# Altium footprint library ee_453_Schulz.PcbLib: 73 footprints (part 4 of 5)
Each footprint in its own frame and in the unit in brackets; x right, y up, seen from the top. Pads: shape width x height; smd on the part's side, far side on the other; paste and mask are expansions set on the pad; w line width, h text height; cw(c..) or ccw(c..) is an arc to the next point about the centre after c.
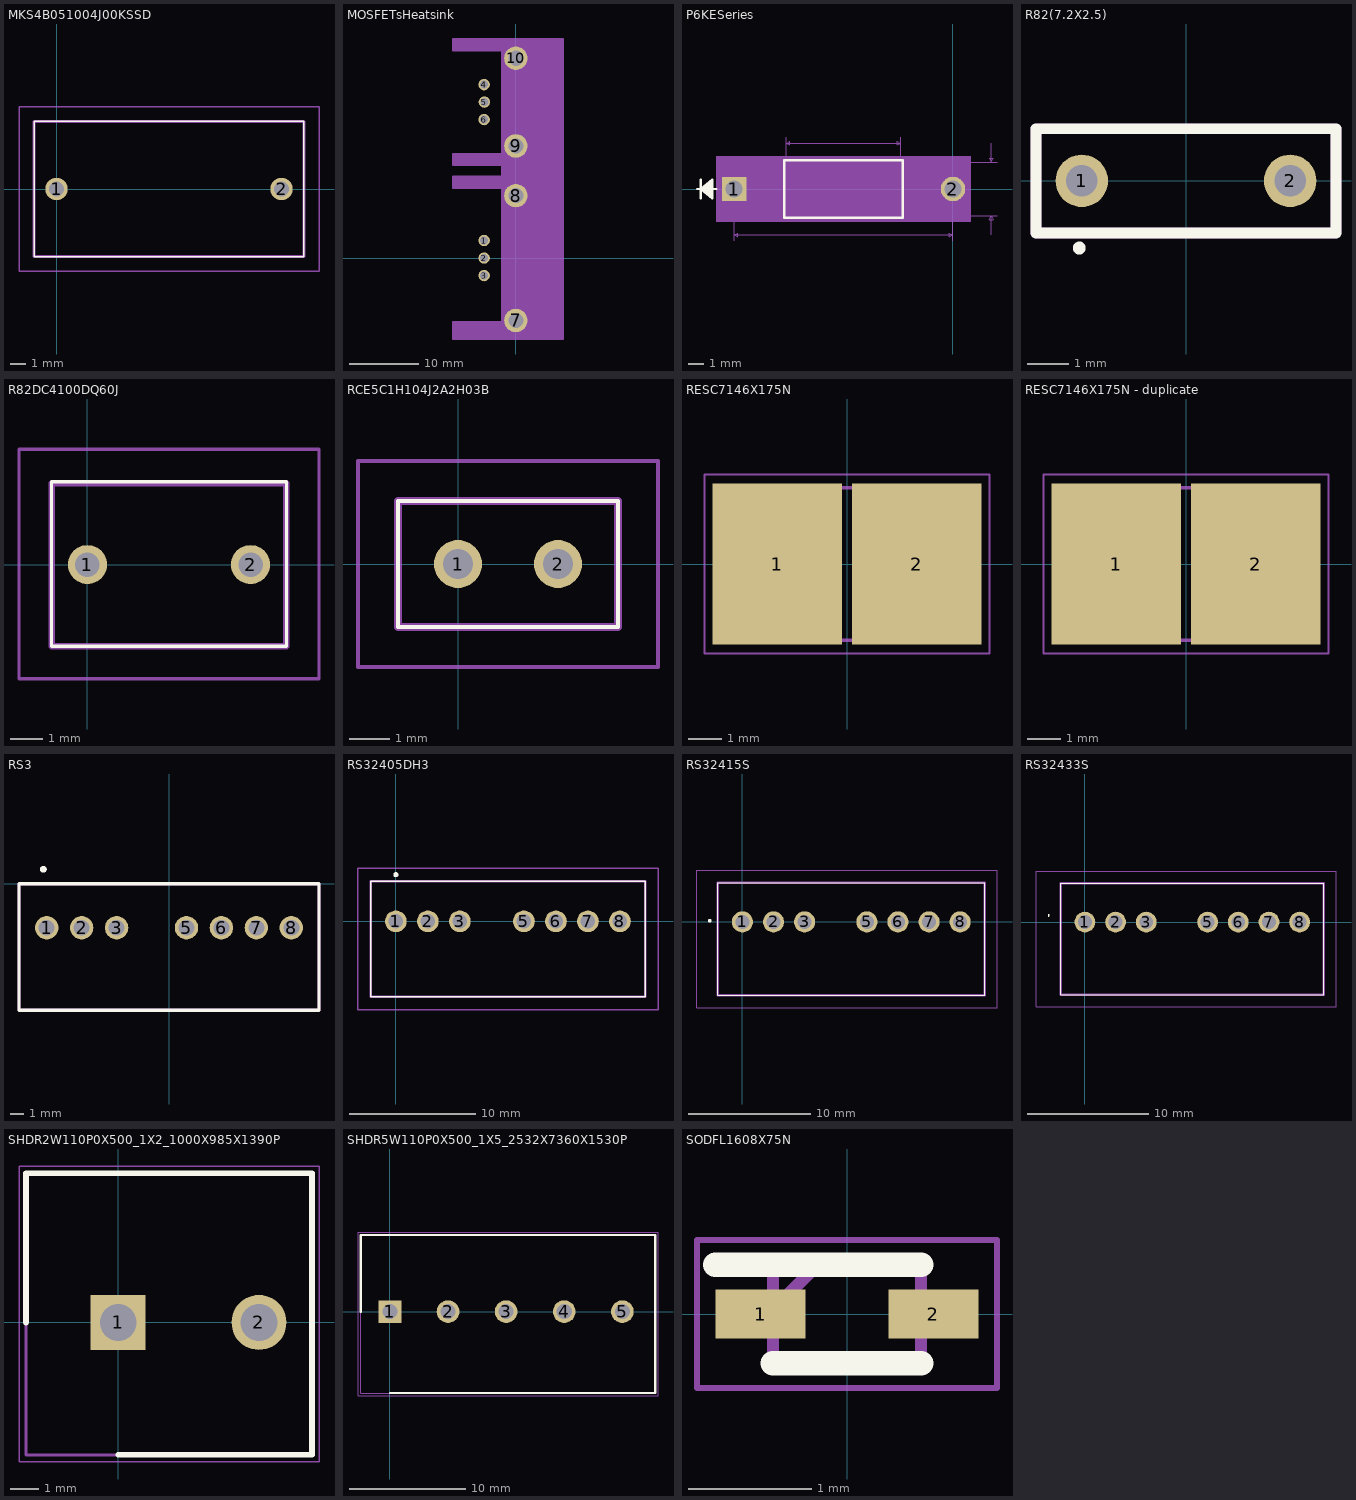
[diagram p3: the footprints below, top view; thin cyan lines are the x and y axes]

## MKS4B051004J00KSSD [mm]
pads (2):
  round 1.5 hole 1: 1(0,0) 2(15,0)
Top Overlay:
  lines w0.1: -1.5,-4.5 -1.5,4.5 16.5,4.5 16.5,-4.5 -1.5,-4.5
Mechanical 13:
  lines w0.2: -1.5,-4.5 -1.5,4.5 16.5,4.5 16.5,-4.5 -1.5,-4.5
Mechanical 15:
  lines w0.1: -2.5,-5.5 -2.5,5.5 17.5,5.5 17.5,-5.5 -2.5,-5.5
3D body "MKS4B051004J00KSSD.stp": height 16.1, standoff -5, extent -1.5,-4.5 16.5,4.5

## MOSFETsHeatsink [mil]
height 1401.57
pads (10):
  round 65 hole 45: 1(-181.1,100) 2(-181.1,0) 3(-181.1,-100) 4(-181.1,989.6) 5(-180,890) 6(-181.1,790.08)
  round 133.86 hole 86.61: 7(0,-356.3) 8(0,356.3) 9(0,639.76) 10(0,1139.76)
Mechanical 1:
  region: -80,1185 -360,1185 -360,1250 268.66,1250 268.66,-460.51 270,-461.85 269.92,-461.93 -360,-461.93 -360,-365 -358.78,-363.78 -80,-363.78 -80,400 -360,400 -360,465 -80,465 -80,530 -360,530 -360,595 -80,595
  lines w10: -360,-404.37 -360,-365 -81.22,-365 -80,-363.78 -80,400 -360,400 -360,465 -80,465 -80,530 -360,530 -360,595 -80,595 -80,1185 -360,1185 -360,1250 268.66,1250 270,1248.66 270,-461.85 269.92,-461.93 -360,-461.93 -360,-395.67

## P6KESeries [mil]
pads (2):
  rect 64x64 hole 44: 1(-572,0)
  round 64 hole 44: 2(0,0)
Top Overlay:
  lines w6: -669,0 -619,0 ; -659,-25 -659,25 ; -629,-20 -659,0 ; -629,-15 -659,0 ; -629,-10 -659,0 ; -629,-5 -659,0 ; -629,5 -659,0 ; -629,10 -659,0 ; -629,15 -659,0 ; -629,20 -659,0 ; -659,0 -629,25 -629,-25 -659,0 ; -441,-75 -131,-75 -131,75 -441,75 -441,-75
Mechanical 5:
  region: 47,-85 -619,-85 -619,85 47,85
Mechanical 7:
  lines w1: -572,-135 -572,0 ; -436,70 -436,135 ; -136,-70 115,-70 ; -136,135 -136,70 115,70 ; 0,-135 0,0 ; 100,-120 100,-70 ; 100,120 100,70 ; -572,-120 0,-120 ; -572,-120 -562,-115 -562,-125 -572,-120 ; -436,120 -136,120 ; -436,120 -426,125 -426,115 -436,120 ; -136,120 -146,125 -146,115 -136,120 ; 0,-120 -10,-115 -10,-125 0,-120 ; 100,-70 95,-80 105,-80 100,-70 ; 100,70 95,80 105,80 100,70
Mechanical 13:
  lines w1: -669,0 -619,0 ; -659,-25 -659,25 ; -629,-20 -659,0 ; -629,-15 -659,0 ; -629,-10 -659,0 ; -629,-5 -659,0 ; -629,5 -659,0 ; -629,10 -659,0 ; -629,15 -659,0 ; -629,20 -659,0 ; -572,0 -436,0 ; -136,0 0,0 ; -659,0 -629,25 -629,-25 -659,0 ; -436,-70 -136,-70 -136,70 -436,70 -436,-70
  text "0.14in/3.556mm" at 120,-12.5 h25
  text "0.572in/14.529mm" at -386,-165 h25
  text "0.3in/7.62mm" at -361,140 h25
Mechanical 15:
  region: -446,-42 -614,-42 -614,42 -446,42 -446,80 -126,80 -126,42 42,42 42,-42 -126,-42 -126,-80 -446,-80
  lines w6: -614,-42 -614,42 -446,42 -446,80 -126,80 -126,42 42,42 42,-42 -126,-42 -126,-80 -446,-80 -446,-42 -614,-42
3D body: height 10, standoff 0, extent 0,0 10,10

## PCBComponent_1 [mm]

## R82(7.2X2.5) [mm]
pads (2):
  round 1.26 hole 0.76: 1(-2.5,0) 2(2.5,0)
Top Overlay:
  circle w0.254: c-2.561,-1.613 r0.027
  lines w0.254: -3.6,-1.25 -3.6,1.25 3.6,1.25 3.6,-1.25 -3.6,-1.25
Mechanical 13:
  lines w0.254: -3.6,-1.25 3.6,-1.25 3.6,1.25 -3.6,1.25 -3.6,-1.25
3D body "R82DC3100DQ50J.stp": height 3.05, standoff -8.55, extent -3.7,-1.25 3.7,1.353

## R82DC4100DQ60J [mm]
pads (2):
  round 1.2 hole 0.75: 1(0,0) 2(5,0)
Top Overlay:
  lines w0.1: -1.1,-2.5 6.1,-2.5 6.1,2.54 -1.1,2.54 -1.1,-2.5
Mechanical 13:
  lines w0.2: -1.1,-2.5 6.1,-2.5 6.1,2.5 -1.1,2.5 -1.1,-2.5
Mechanical 15:
  lines w0.1: -2.1,-3.5 7.1,-3.5 7.1,3.54 -2.1,3.54 -2.1,-3.5
3D body "R82DC4100DQ60J.stp": height 4.8, standoff -10.3, extent -1.25,-2.562 6.25,2.54

## RCE5C1H104J2A2H03B [mm]
pads (2):
  round 1.2 hole 0.75: 1(0,0) 2(2.5,0)
Top Overlay:
  lines w0.1: -1.5,-1.575 -1.5,1.575 4,1.575 4,-1.575 -1.5,-1.575
Mechanical 13:
  lines w0.2: -1.5,-1.575 -1.5,1.575 4,1.575 4,-1.575 -1.5,-1.575
Mechanical 15:
  lines w0.1: -2.5,-2.575 -2.5,2.575 5,2.575 5,-2.575 -2.5,-2.575
3D body "RDER72A105K2M1H03A.stp": height 5.6, standoff -5, extent -1.5,-1.575 4,1.575

## RESC7146X175N [mm]
pads (2):
  rect 3.9x4.85 smd: 1(-2.1,0) 2(2.1,0)
Mechanical 13:
  lines w0.1: -3.55,-2.3 3.55,-2.3 3.55,2.3 -3.55,2.3 -3.55,-2.3
Mechanical 15:
  lines w0.05: -4.3,-2.7 4.3,-2.7 4.3,2.7 -4.3,2.7 -4.3,-2.7
3D body "WSHP2818R0500FEA.stp": height 1.75, standoff 0, extent -3.55,-2.3 3.55,2.3

## RESC7146X175N - duplicate [mm]
pads (2):
  rect 3.9x4.85 smd: 1(-2.1,0) 2(2.1,0)
Mechanical 13:
  lines w0.1: -3.55,-2.3 -3.55,2.3 3.55,2.3 3.55,-2.3 -3.55,-2.3
Mechanical 15:
  lines w0.05: -4.3,-2.7 -4.3,2.7 4.3,2.7 4.3,-2.7 -4.3,-2.7
3D body "WSHP2818R0500FEA.stp": height 1.75, standoff 0, extent -3.55,-2.3 3.55,2.3

## RS3 [mm]
pads (7):
  round 1.7 hole 1.15: 1(-8.89,-3.2) 2(-6.35,-3.2) 3(-3.81,-3.2) 5(1.27,-3.2) 6(3.81,-3.2) 7(6.35,-3.2) 8(8.89,-3.2)
Top Overlay:
  circle w0.254: c-9.131,1.045 r0.121
  lines w0.254: -10.9,-9.2 -10.9,0 10.9,0 10.9,-9.2 -10.9,-9.2
Mechanical 13:
  lines w0.254: -10.9,-9.2 10.9,-9.2 10.9,0 -10.9,0 -10.9,-9.2

## RS32405DH3 [mm]
pads (7):
  round 1.725 hole 1.15: 1(0,0) 2(2.54,0) 3(5.08,0) 5(10.16,0) 6(12.7,0) 7(15.24,0) 8(17.78,0)
Top Overlay:
  lines w0.1: -2,-6 -2,3.2 19.8,3.2 19.8,-6 -2,-6
  lines w0.2: 0,3.6 cw(c0,3.7) 0,3.8 cw(c0,3.7) 0,3.6
Mechanical 13:
  lines w0.2: -2,-6 -2,3.2 19.8,3.2 19.8,-6 -2,-6
Mechanical 15:
  lines w0.1: -3,-7 -3,4.2 20.8,4.2 20.8,-7 -3,-7
3D body "RS3-2415D.stp": height 11.45, standoff -5, extent -2,-6 19.8,3.2

## RS32415S [mm]
pads (7):
  round 1.725 hole 1.15: 1(0,0) 2(2.54,0) 3(5.08,0) 5(10.16,0) 6(12.7,0) 7(15.24,0) 8(17.78,0)
Top Overlay:
  lines w0.1: -2.01,-6 -2.01,3.2 19.79,3.2 19.79,-6 -2.01,-6
  lines w0.2: -2.71,0.1 ccw(c-2.66,0.1) -2.61,0.1 ccw(c-2.66,0.1) -2.71,0.1
Mechanical 13:
  lines w0.2: -2.01,-6 -2.01,3.2 19.79,3.2 19.79,-6 -2.01,-6
Mechanical 15:
  lines w0.1: -3.71,-7 -3.71,4.2 20.79,4.2 20.79,-7 -3.71,-7
3D body "RS3-2415S.stp": height 11.45, standoff -5, extent -2.01,-6 19.79,3.2

## RS32433S [mm]
pads (7):
  round 1.725 hole 1.15: 1(0,0) 2(2.54,0) 3(5.08,0) 5(10.16,0) 6(12.7,0) 7(15.24,0) 8(17.78,0)
Top Overlay:
  lines w0.1: -3,0.5 cw(c-3,0.55) -3,0.6 cw(c-3,0.55) -3,0.5 ; -2.01,-6 -2.01,3.2 19.79,3.2 19.79,-6 -2.01,-6
Mechanical 13:
  lines w0.2: -2.01,-6 -2.01,3.2 19.79,3.2 19.79,-6 -2.01,-6
Mechanical 15:
  lines w0.1: -4.05,-7 -4.05,4.2 20.79,4.2 20.79,-7 -4.05,-7
3D body "RS3-243.3S.stp": height 11.45, standoff -5, extent -2.01,-6 19.79,3.2

## SHDR2W110P0X500_1X2_1000X985X1390P [mm]
pads (2):
  rect 1.95x1.95 hole 1.3: 1(0,0)
  round 1.95 hole 1.3: 2(5,0)
Top Overlay:
  lines w0.2: -3.27,0 -3.27,5.3 6.88,5.3 6.88,-4.7 0,-4.7
Mechanical 13:
  lines w0.1: -3.27,-4.7 -3.27,5.3 6.88,5.3 6.88,-4.7 -3.27,-4.7
Mechanical 15:
  lines w0.05: -3.52,-4.95 -3.52,5.55 7.13,5.55 7.13,-4.95 -3.52,-4.95
3D body "1985881.stp": height 13.8, standoff -3.5, extent -2.449,-5.355 8.291,4.445

## SHDR5W110P0X500_1X5_2532X7360X1530P [mm]
pads (5):
  rect 1.95x1.95 hole 1.3: 1(0,0)
  round 1.95 hole 1.3: 2(5,0) 3(10,0) 4(15,0) 5(20,0)
Top Overlay:
  lines w0.2: -2.5,0 -2.5,6.6 22.82,6.6 22.82,-7 0,-7
Mechanical 13:
  lines w0.1: -2.5,-7 22.82,-7 22.82,6.6 -2.5,6.6 -2.5,-7
Mechanical 15:
  lines w0.05: -2.75,-7.25 23.07,-7.25 23.07,6.85 -2.75,6.85 -2.75,-7.25
3D body "1733606.stp": height 15.3, standoff -3.5, extent -3.546,-6.542 22.596,6.858

## SODFL1608X75N [mm]
pads (2):
  rect 0.73x0.4 smd: 1(-0.7,0) 2(0.7,0)
Top Overlay:
  lines w0.2: -1.065,0.4 0.6,0.4 ; -0.6,-0.4 0.6,-0.4
Mechanical 13:
  lines w0.1: -0.6,0.035 -0.235,0.4 ; -0.6,-0.4 0.6,-0.4 0.6,0.4 -0.6,0.4 -0.6,-0.4
Mechanical 15:
  lines w0.05: -1.215,-0.6 1.215,-0.6 1.215,0.6 -1.215,0.6 -1.215,-0.6
3D body "BZX584C3V3-G3-08.stp": height 0.75, standoff 0, extent -0.8,-0.4 0.8,0.4